# Altium schematic symbol library Misc.SchLib: 3 symbols
Pins are listed as number, name and electrical type; pins without a type are passive.

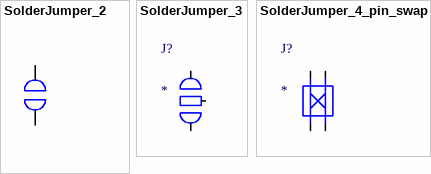
[diagram p0: symbols SolderJumper_2 to SolderJumper_4_pin_swap]

## SolderJumper_2
designator J?
pins: 1, 2

## SolderJumper_3
designator J?
footprint Solder_Jumper_3pin_0.2mm (Solder jumper with three pins with a spacing of 0.2mm)
footprint Solder_Jumper_3pin_0.3mm (Solder jumper with three pins with a spacing of 0.3mm)
pins: 1, 2, 3

## SolderJumper_4_pin_swap
designator J?
footprint Solder_Jumper_4pin_0.2mm (Solder jumper with four pins with a spacing of 0.2mm)
footprint Solder_Jumper_4pin_0.3mm (Solder jumper with four pins with a spacing of 0.3mm)
pins: 1, 2, 3, 4